# EAGLE library part EFR32BG13 (library EFR32BG13)
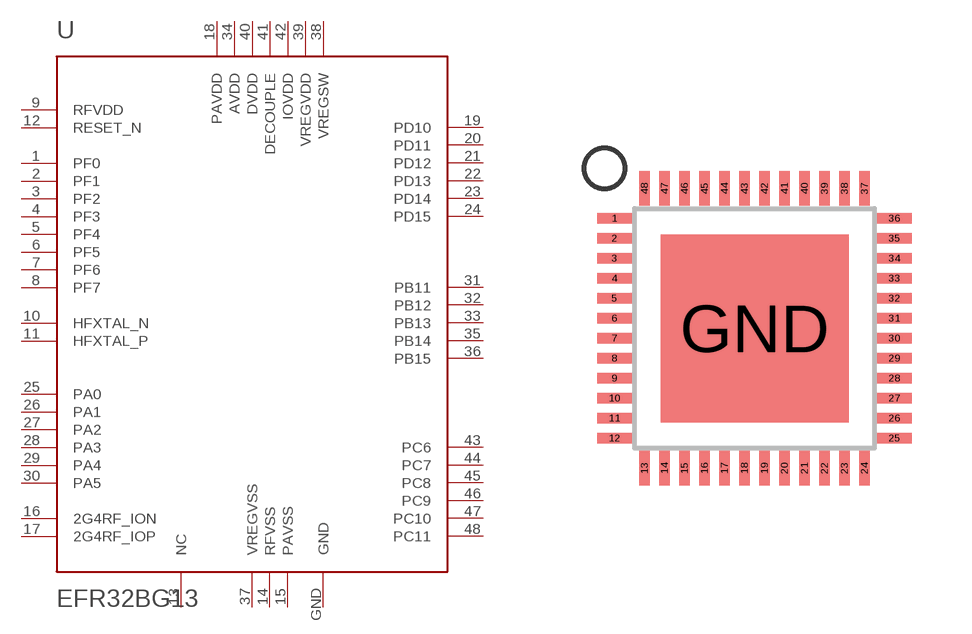
[diagram p1: symbol with the pads of QFN48; footprint QFN48]

Designator prefix U

## EFR32BG13  [QFN48]
1  PF0
2  PF1
3  PF2
4  PF3
5  PF4
6  PF5
7  PF6
8  PF7
9  RFVDD
10  HFXTAL_N
11  HFXTAL_P
12  RESET_N
13  NC
14  RFVSS
15  PAVSS
16  2G4RF_ION
17  2G4RF_IOP
18  PAVDD
19  PD10
20  PD11
21  PD12
22  PD13
23  PD14
24  PD15
25  PA0
26  PA1
27  PA2
28  PA3
29  PA4
30  PA5
31  PB11
32  PB12
33  PB13
34  AVDD
35  PB14
36  PB15
37  VREGVSS
38  VREGSW
39  VREGVDD
40  DVDD
41  DECOUPLE
42  IOVDD
43  PC6
44  PC7
45  PC8
46  PC9
47  PC10
48  PC11
GND  GND

## Footprint QFN48 (pad centres in mm)
smd 0.86 x 0.26: 1 -3.5,4; 2 -3.5,3.5; 3 -3.5,3; 4 -3.5,2.5; 5 -3.5,2; 6 -3.5,1.5; 7 -3.5,1; 8 -3.5,0.5; 9 -3.5,0; 10 -3.5,-0.5; 11 -3.5,-1; 12 -3.5,-1.5; 25 3.5,-1.5; 26 3.5,-1; 27 3.5,-0.5; 28 3.5,0; 29 3.5,0.5; 30 3.5,1; 31 3.5,1.5; 32 3.5,2; 33 3.5,2.5; 34 3.5,3; 35 3.5,3.5; 36 3.5,4
smd 0.26 x 0.86: 13 -2.75,-2.25; 14 -2.25,-2.25; 15 -1.75,-2.25; 16 -1.25,-2.25; 17 -0.75,-2.25; 18 -0.25,-2.25; 19 0.25,-2.25; 20 0.75,-2.25; 21 1.25,-2.25; 22 1.75,-2.25; 23 2.25,-2.25; 24 2.75,-2.25; 37 2.75,4.75; 38 2.25,4.75; 39 1.75,4.75; 40 1.25,4.75; 41 0.75,4.75; 42 0.25,4.75; 43 -0.25,4.75; 44 -0.75,4.75; 45 -1.25,4.75; 46 -1.75,4.75; 47 -2.25,4.75; 48 -2.75,4.75
smd 4.7 x 4.7: GND 0,1.25